# EAGLE library part TSW-110-23-F-D (library TSW-110-23-F-D)
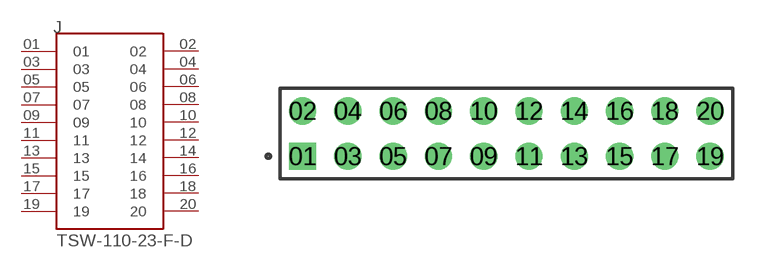
[diagram p0: symbol with the pads of SAMTEC_TSW-110-23-F-D; footprint SAMTEC_TSW-110-23-F-D]

Designator prefix J

## TSW-110-23-F-D (MANUFACTURER: Samtec; PARTREV: R; STANDARD: Manufacturer Recommendations)  [SAMTEC_TSW-110-23-F-D]
01  01  pas
02  02  pas
03  03  pas
04  04  pas
05  05  pas
06  06  pas
07  07  pas
08  08  pas
09  09  pas
10  10  pas
11  11  pas
12  12  pas
13  13  pas
14  14  pas
15  15  pas
16  16  pas
17  17  pas
18  18  pas
19  19  pas
20  20  pas

## Footprint SAMTEC_TSW-110-23-F-D (pad centres in mm)
drill 1.02 pad 1.37 square: 01 0,0
drill 1.02 pad 1.37: 02 0,2.54; 03 2.54,0; 04 2.54,2.54; 05 5.08,0; 06 5.08,2.54; 07 7.62,0; 08 7.62,2.54; 09 10.16,0; 10 10.16,2.54; 11 12.7,0; 12 12.7,2.54; 13 15.24,0; 14 15.24,2.54; 15 17.78,0; 16 17.78,2.54; 17 20.32,0; 18 20.32,2.54; 19 22.86,0; 20 22.86,2.54